# Altium integrated library Diode - Rectifier.IntLib: 777 symbols (part 11 of 12)
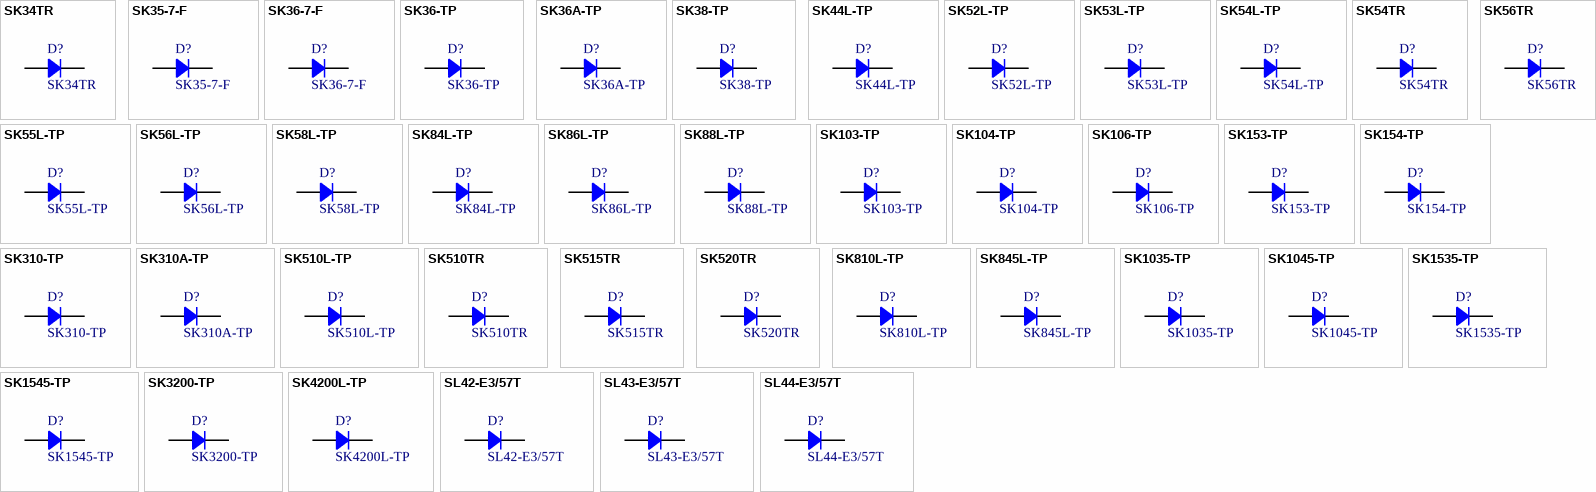
[diagram p29: symbols SK34TR to SL44-E3/57T]

## SK54L-TP
designator D?
DIODE SCHOTTKY 40V 5A DO214AB; Manufacturer: Micro Commercial Co; Current Reverse Leakage @ Vr: 1mA @ 40V; Voltage Forward (Vf): 550mV @ 5A; Part Number: SK54L-TP; PartId: 27827; Supplier 1: Digi-Key; Supplier Part Number 1: SK54L-TPMSCT-ND; ComponentLink1Description: Datasheet; ComponentLink1URL: http://www.mccsemi.com/up_pdf/SK52L-SK510L(DO-214AB).PDF; ComponentLink2Description: Digi-Key Listing; ComponentLink2URL: https://www.digikey.com/product-detail/en/micro-commercial-co/SK54L-TP/SK54L-TPMSCT-ND/4071513; Junction Operating Temperature: -55C ~ 150C; Price: 0.49; Type: Schottky; Device Package: DO-214AB, SMC; Voltage DC Reverse (Vr): 40V; Current Rectified: 5A
footprint ST DO214AB SMC
pins: 1, 2

## SK54TR
designator D?
DIODE SCHOTTKY 40V SMC; Manufacturer: SMC Diode Solutions; Current Reverse Leakage @ Vr: 1mA @ 40V; Voltage Forward (Vf): 650mV @ 5A; Part Number: SK54TR; PartId: 27812; Supplier 1: Digi-Key; Supplier Part Number 1: 1655-1605-1-ND; ComponentLink1Description: Datasheet; ComponentLink1URL: http://www.smc-diodes.com/propdf/SK54%20N0939%20REV.-.pdf; ComponentLink2Description: Digi-Key Listing; ComponentLink2URL: https://www.digikey.com/product-detail/en/smc-diode-solutions/SK54TR/1655-1605-1-ND/6023050; Junction Operating Temperature: -55C ~ 150C; Price: 0.4; Type: Schottky; Device Package: DO-214AB, SMC; Voltage DC Reverse (Vr): 40V
footprint ST DO214AB SMC
pins: 1, 2

## SK55L-TP
designator D?
DIODE SCHOTTKY 50V 5A DO214AB; Manufacturer: Micro Commercial Co; Current Reverse Leakage @ Vr: 1mA @ 50V; Voltage Forward (Vf): 750mV @ 5A; Part Number: SK55L-TP; PartId: 27826; Supplier 1: Digi-Key; Supplier Part Number 1: SK55L-TPMSCT-ND; ComponentLink1Description: Datasheet; ComponentLink1URL: http://www.mccsemi.com/up_pdf/SK52L-SK510L(DO-214AB).PDF; ComponentLink2Description: Digi-Key Listing; ComponentLink2URL: https://www.digikey.com/product-detail/en/micro-commercial-co/SK55L-TP/SK55L-TPMSCT-ND/4071514; Junction Operating Temperature: -55C ~ 150C; Price: 0.49; Type: Schottky; Device Package: DO-214AB, SMC; Voltage DC Reverse (Vr): 50V; Current Rectified: 5A
footprint ST DO214AB SMC
pins: 1, 2

## SK56L-TP
designator D?
DIODE SCHOTTKY 60V 5A DO214AB; Manufacturer: Micro Commercial Co; Current Reverse Leakage @ Vr: 1mA @ 60V; Voltage Forward (Vf): 750mV @ 5A; Part Number: SK56L-TP; PartId: 27727; Supplier 1: Digi-Key; Supplier Part Number 1: SK56L-TPMSCT-ND; ComponentLink1Description: Datasheet; ComponentLink1URL: http://www.mccsemi.com/up_pdf/SK52L-SK510L(DO-214AB).PDF; ComponentLink2Description: Digi-Key Listing; ComponentLink2URL: https://www.digikey.com/product-detail/en/micro-commercial-co/SK56L-TP/SK56L-TPMSCT-ND/4071515; Junction Operating Temperature: -55C ~ 150C; Price: 0.49; Type: Schottky; Device Package: DO-214AB, SMC; Voltage DC Reverse (Vr): 60V; Current Rectified: 5A
footprint ST DO214AB SMC
pins: 1, 2

## SK56TR
designator D?
DIODE SCHOTTKY 60V SMB; Manufacturer: SMC Diode Solutions; Current Reverse Leakage @ Vr: 1mA @ 60V; Voltage Forward (Vf): 700mV @ 5A; Part Number: SK56TR; PartId: 27810; Supplier 1: Digi-Key; Supplier Part Number 1: 1655-1607-1-ND; ComponentLink1Description: Datasheet; ComponentLink1URL: http://www.smc-diodes.com/propdf/SK56%20N0940%20REV.-.pdf; ComponentLink2Description: Digi-Key Listing; ComponentLink2URL: https://www.digikey.com/product-detail/en/smc-diode-solutions/SK56TR/1655-1607-1-ND/6023052; Junction Operating Temperature: -55C ~ 150C; Price: 0.4; Type: Schottky; Device Package: DO-214AB, SMC; Voltage DC Reverse (Vr): 60V
footprint ST DO214AB SMC
pins: 1, 2

## SK58L-TP
designator D?
DIODE SCHOTTKY 80V 5A DO214AB; Manufacturer: Micro Commercial Co; Current Reverse Leakage @ Vr: 1mA @ 80V; Voltage Forward (Vf): 850mV @ 5A; Part Number: SK58L-TP; PartId: 27900; Supplier 1: Digi-Key; Supplier Part Number 1: SK58L-TPMSCT-ND; ComponentLink1Description: Datasheet; ComponentLink1URL: http://www.mccsemi.com/up_pdf/SK52L-SK510L(DO-214AB).PDF; ComponentLink2Description: Digi-Key Listing; ComponentLink2URL: https://www.digikey.com/product-detail/en/micro-commercial-co/SK58L-TP/SK58L-TPMSCT-ND/4966298; Junction Operating Temperature: -55C ~ 150C; Price: 0.49; Type: Schottky; Device Package: DO-214AB, SMC; Voltage DC Reverse (Vr): 80V; Current Rectified: 5A
footprint ST DO214AB SMC
pins: 1, 2

## SK84L-TP
designator D?
DIODE SCHOTTKY 40V 8A DO214AB; Manufacturer: Micro Commercial Co; Current Reverse Leakage @ Vr: 1mA @ 40V; Voltage Forward (Vf): 650mV @ 8A; Part Number: SK84L-TP; PartId: 27752; Supplier 1: Digi-Key; Supplier Part Number 1: SK84L-TPMSCT-ND; ComponentLink1Description: Datasheet; ComponentLink1URL: http://www.mccsemi.com/up_pdf/SK82L-SK810L(SMC).PDF; ComponentLink2Description: Digi-Key Listing; ComponentLink2URL: https://www.digikey.com/product-detail/en/micro-commercial-co/SK84L-TP/SK84L-TPMSCT-ND/3191624; Junction Operating Temperature: -55C ~ 150C; Price: 0.74; Type: Schottky; Device Package: DO-214AB, SMC; Voltage DC Reverse (Vr): 40V; Current Rectified: 8A
footprint ST DO214AB SMC
pins: 1, 2

## SK86L-TP
designator D?
DIODE SCHOTTKY 60V 8A DO214AB; Manufacturer: Micro Commercial Co; Current Reverse Leakage @ Vr: 1mA @ 60V; Voltage Forward (Vf): 650mV @ 8A; Part Number: SK86L-TP; PartId: 27701; Supplier 1: Digi-Key; Supplier Part Number 1: SK86L-TPMSCT-ND; ComponentLink1Description: Datasheet; ComponentLink1URL: http://www.mccsemi.com/up_pdf/SK82L-SK810L(SMC).PDF; ComponentLink2Description: Digi-Key Listing; ComponentLink2URL: https://www.digikey.com/product-detail/en/micro-commercial-co/SK86L-TP/SK86L-TPMSCT-ND/4966300; Junction Operating Temperature: -55C ~ 150C; Price: 0.74; Type: Schottky; Device Package: DO-214AB, SMC; Voltage DC Reverse (Vr): 60V; Current Rectified: 8A
footprint ST DO214AB SMC
pins: 1, 2

## SK88L-TP
designator D?
DIODE SCHOTTKY 80V 8A DO214AB; Manufacturer: Micro Commercial Co; Current Reverse Leakage @ Vr: 1mA @ 80V; Voltage Forward (Vf): 800mV @ 8A; Part Number: SK88L-TP; PartId: 27906; Supplier 1: Digi-Key; Supplier Part Number 1: SK88L-TPMSCT-ND; ComponentLink1Description: Datasheet; ComponentLink1URL: http://www.mccsemi.com/up_pdf/SK82L-SK810L(SMC).PDF; ComponentLink2Description: Digi-Key Listing; ComponentLink2URL: https://www.digikey.com/product-detail/en/micro-commercial-co/SK88L-TP/SK88L-TPMSCT-ND/4966301; Junction Operating Temperature: -55C ~ 150C; Price: 0.74; Type: Schottky; Device Package: DO-214AB, SMC; Voltage DC Reverse (Vr): 80V; Current Rectified: 8A
footprint ST DO214AB SMC
pins: 1, 2

## SK103-TP
designator D?
DIODE SCHOTTKY 30V 10A DO214AB; Manufacturer: Micro Commercial Co; Current Reverse Leakage @ Vr: 1mA @ 30V; Voltage Forward (Vf): 650mV @ 10A; Part Number: SK103-TP; PartId: 27757; Supplier 1: Digi-Key; Supplier Part Number 1: SK103-TPCT-ND; ComponentLink1Description: Datasheet; ComponentLink1URL: http://www.mccsemi.com/up_pdf/SK102-SK1010(HSMC).PDF; ComponentLink2Description: Digi-Key Listing; ComponentLink2URL: https://www.digikey.com/product-detail/en/micro-commercial-co/SK103-TP/SK103-TPCT-ND/1306211; Junction Operating Temperature: -55C ~ 125C; Price: 0.9; Type: Schottky; Device Package: DO-214AB, SMC; Voltage DC Reverse (Vr): 30V; Current Rectified: 10A
footprint ST DO214AB SMC
pins: 1, 2

## SK104-TP
designator D?
DIODE SCHOTTKY 40V 10A DO214AB; Manufacturer: Micro Commercial Co; Current Reverse Leakage @ Vr: 1mA @ 40V; Voltage Forward (Vf): 650mV @ 10A; Part Number: SK104-TP; PartId: 27706; Supplier 1: Digi-Key; Supplier Part Number 1: SK104-TPCT-ND; ComponentLink1Description: Datasheet; ComponentLink1URL: http://www.mccsemi.com/up_pdf/SK102-SK1010(HSMC).PDF; ComponentLink2Description: Digi-Key Listing; ComponentLink2URL: https://www.digikey.com/product-detail/en/micro-commercial-co/SK104-TP/SK104-TPCT-ND/1306212; Junction Operating Temperature: -55C ~ 125C; Price: 0.9; Type: Schottky; Device Package: DO-214AB, SMC; Voltage DC Reverse (Vr): 40V; Current Rectified: 10A
footprint ST DO214AB SMC
pins: 1, 2

## SK106-TP
designator D?
DIODE SCHOTTKY 60V 10A DO214AB; Manufacturer: Micro Commercial Co; Type: Surface Mount; Current Reverse Leakage @ Vr: 1mA @ 60V; Voltage Forward (Vf): 850mV @ 10A; Part Number: SK106-TP; PartId: 7135; Supplier 1: Digi-Key; Supplier Part Number 1: SK106-TPTR-ND; ComponentLink1Description: Datasheet; ComponentLink1URL: http://www.mccsemi.com/up_pdf/SK102-SK1010(HSMC).PDF; ComponentLink2Description: Digi-Key Listing; ComponentLink2URL: http://www.digikey.ca/product-detail/en/SK106-TP/SK106-TPTR-ND/1306162; Junction Operating Temperature: -55C ~ 125C; Price: 0.5378; Device Package: DO-214AB, SMC; Reverse Recovery Time (trr): -; Voltage DC Reverse (Vr): 60V; Current Rectified: 10A
footprint DO214AB SMC
pins: 1, 2

## SK153-TP
designator D?
DIODE SCHOTTKY 30V 15A DO214AB; Manufacturer: Micro Commercial Co; Type: Surface Mount; Current Reverse Leakage @ Vr: 1mA @ 30V; Voltage Forward (Vf): 550mV @ 15A; Part Number: SK153-TP; PartId: 7133; Supplier 1: Digi-Key; Supplier Part Number 1: SK153-TPTR-ND; ComponentLink1Description: Datasheet; ComponentLink1URL: http://www.mccsemi.com/up_pdf/SK152-SK1510(HSMC).PDF; ComponentLink2Description: Digi-Key Listing; ComponentLink2URL: http://www.digikey.ca/product-detail/en/SK153-TP/SK153-TPTR-ND/1306165; Junction Operating Temperature: -55C ~ 125C; Price: 0.753; Device Package: DO-214AB, SMC; Reverse Recovery Time (trr): -; Voltage DC Reverse (Vr): 30V; Current Rectified: 15A
footprint DO214AB SMC
pins: 1, 2

## SK154-TP
designator D?
DIODE SCHOTTKY 40V 15A DO214AB; Manufacturer: Micro Commercial Co; Type: Surface Mount; Current Reverse Leakage @ Vr: 1mA @ 40V; Voltage Forward (Vf): 550mV @ 15A; Part Number: SK154-TP; PartId: 7134; Supplier 1: Digi-Key; Supplier Part Number 1: SK154-TPTR-ND; ComponentLink1Description: Datasheet; ComponentLink1URL: http://www.mccsemi.com/up_pdf/SK152-SK1510(HSMC).PDF; ComponentLink2Description: Digi-Key Listing; ComponentLink2URL: http://www.digikey.ca/product-detail/en/SK154-TP/SK154-TPTR-ND/1306166; Junction Operating Temperature: -55C ~ 125C; Price: 0.753; Device Package: DO-214AB, SMC; Reverse Recovery Time (trr): -; Voltage DC Reverse (Vr): 40V; Current Rectified: 15A
footprint DO214AB SMC
pins: 1, 2

## SK310-TP
designator D?
DIODE SCHOTTKY 3A 100V SMC; Manufacturer: Micro Commercial Co; Current Reverse Leakage @ Vr: 500uA @ 100V; Voltage Forward (Vf): 850mV @ 3A; Part Number: SK310-TP; PartId: 27819; Supplier 1: Digi-Key; Supplier Part Number 1: SK310-TPMSCT-ND; ComponentLink1Description: Datasheet; ComponentLink1URL: http://www.mccsemi.com/up_pdf/SK32-SK310(DO-214AB).PDF; ComponentLink2Description: Digi-Key Listing; ComponentLink2URL: https://www.digikey.com/product-detail/en/micro-commercial-co/SK310-TP/SK310-TPMSCT-ND/5418802; Junction Operating Temperature: -55C ~ 150C; Price: 0.48; Type: Schottky; Device Package: DO-214AB, SMC; Voltage DC Reverse (Vr): 100V; Current Rectified: 3A
footprint ST DO214AB SMC
pins: 1, 2

## SK310A-TP
designator D?
DIODE SCHOTTKY 100V 3A DO214AC; Manufacturer: Micro Commercial Co; Current Reverse Leakage @ Vr: 500uA @ 100V; Voltage Forward (Vf): 850mV @ 3A; Part Number: SK310A-TP; PartId: 18051; Supplier 1: Digi-Key; Supplier Part Number 1: SK310A-TPTR-ND; ComponentLink1Description: Datasheet; ComponentLink1URL: http://www.mccsemi.com/up_pdf/SK32A-SK310A(HSMA).PDF; ComponentLink2Description: Digi-Key Listing; ComponentLink2URL: https://www.digikey.com/product-detail/en/micro-commercial-co/SK310A-TP/SK310A-TPTR-ND/950448; Junction Operating Temperature: -50C ~ 125C; Price: 0.157; Type: Schottky; Device Package: DO-214AC, SMA; Voltage DC Reverse (Vr): 100V; Current Rectified: 3A
footprint ST DO214AC SMA
pins: 1, 2

## SK510L-TP
designator D?
DIODE SCHOTTKY 100V 5A DO214AB; Manufacturer: Micro Commercial Co; Current Reverse Leakage @ Vr: 1mA @ 100V; Voltage Forward (Vf): 850mV @ 5A; Part Number: SK510L-TP; PartId: 27822; Supplier 1: Digi-Key; Supplier Part Number 1: SK510L-TPMSCT-ND; ComponentLink1Description: Datasheet; ComponentLink1URL: http://www.mccsemi.com/up_pdf/SK52L-SK510L(DO-214AB).PDF; ComponentLink2Description: Digi-Key Listing; ComponentLink2URL: https://www.digikey.com/product-detail/en/micro-commercial-co/SK510L-TP/SK510L-TPMSCT-ND/4071512; Junction Operating Temperature: -55C ~ 150C; Price: 0.49; Type: Schottky; Device Package: DO-214AB, SMC; Voltage DC Reverse (Vr): 100V; Current Rectified: 5A
footprint ST DO214AB SMC
pins: 1, 2

## SK510TR
designator D?
DIODE SCHOTTKY 100V SMB; Manufacturer: SMC Diode Solutions; Current Reverse Leakage @ Vr: 100uA @ 100V; Voltage Forward (Vf): 850mV @ 5A; Part Number: SK510TR; PartId: 27808; Supplier 1: Digi-Key; Supplier Part Number 1: 1655-1599-1-ND; ComponentLink1Description: Datasheet; ComponentLink1URL: http://www.smc-diodes.com/propdf/SK510%20N1113%20REV.-.pdf; ComponentLink2Description: Digi-Key Listing; ComponentLink2URL: https://www.digikey.com/product-detail/en/smc-diode-solutions/SK510TR/1655-1599-1-ND/6023044; Junction Operating Temperature: -55C ~ 150C; Price: 0.4; Type: Schottky; Device Package: DO-214AB, SMC; Voltage DC Reverse (Vr): 100V
footprint ST DO214AB SMC
pins: 1, 2

## SK515TR
designator D?
DIODE SCHOTTKY 150V SMB; Manufacturer: SMC Diode Solutions; Current Reverse Leakage @ Vr: 1mA @ 150V; Voltage Forward (Vf): 930mV @ 5A; Part Number: SK515TR; PartId: 27811; Supplier 1: Digi-Key; Supplier Part Number 1: 1655-1601-1-ND; ComponentLink1Description: Datasheet; ComponentLink1URL: http://www.smc-diodes.com/propdf/SK515%20N0636%20REV.-.pdf; ComponentLink2Description: Digi-Key Listing; ComponentLink2URL: https://www.digikey.com/product-detail/en/smc-diode-solutions/SK515TR/1655-1601-1-ND/6023046; Junction Operating Temperature: -55C ~ 150C; Price: 0.4; Type: Schottky; Device Package: DO-214AB, SMC; Voltage DC Reverse (Vr): 150V
footprint ST DO214AB SMC
pins: 1, 2

## SK520TR
designator D?
DIODE SCHOTTKY 200V 5A SMC; Manufacturer: SMC Diode Solutions; Current Reverse Leakage @ Vr: 1mA @ 200V; Voltage Forward (Vf): 1.1V @ 5A; Part Number: SK520TR; PartId: 27796; Supplier 1: Digi-Key; Supplier Part Number 1: 1655-1603-1-ND; ComponentLink1Description: Datasheet; ComponentLink1URL: http://www.smc-diodes.com/propdf/SK520%20N0107%20REV.-.pdf; ComponentLink2Description: Digi-Key Listing; ComponentLink2URL: https://www.digikey.com/product-detail/en/smc-diode-solutions/SK520TR/1655-1603-1-ND/6023048; Junction Operating Temperature: -55C ~ 150C; Price: 0.4; Type: Schottky; Device Package: DO-214AB, SMC; Voltage DC Reverse (Vr): 200V; Current Rectified: 5A
footprint ST DO214AB SMC
pins: 1, 2

## SK810L-TP
designator D?
DIODE SCHOTTKY 100V 8A DO214AB; Manufacturer: Micro Commercial Co; Current Reverse Leakage @ Vr: 1mA @ 100V; Voltage Forward (Vf): 800mV @ 8A; Part Number: SK810L-TP; PartId: 27700; Supplier 1: Digi-Key; Supplier Part Number 1: SK810L-TPMSCT-ND; ComponentLink1Description: Datasheet; ComponentLink1URL: http://www.mccsemi.com/up_pdf/SK82L-SK810L(SMC).PDF; ComponentLink2Description: Digi-Key Listing; ComponentLink2URL: https://www.digikey.com/product-detail/en/micro-commercial-co/SK810L-TP/SK810L-TPMSCT-ND/2650908; Junction Operating Temperature: -55C ~ 150C; Price: 0.74; Type: Schottky; Device Package: DO-214AB, SMC; Voltage DC Reverse (Vr): 100V; Current Rectified: 8A
footprint ST DO214AB SMC
pins: 1, 2

## SK845L-TP
designator D?
DIODE SCHOTTKY 45V 8A DO214AB; Manufacturer: Micro Commercial Co; Current Reverse Leakage @ Vr: 1mA @ 45V; Voltage Forward (Vf): 650mV @ 8A; Part Number: SK845L-TP; PartId: 27905; Supplier 1: Digi-Key; Supplier Part Number 1: SK845L-TPMSCT-ND; ComponentLink1Description: Datasheet; ComponentLink1URL: http://www.mccsemi.com/up_pdf/SK82L-SK810L(SMC).PDF; ComponentLink2Description: Digi-Key Listing; ComponentLink2URL: https://www.digikey.com/product-detail/en/micro-commercial-co/SK845L-TP/SK845L-TPMSCT-ND/4966299; Junction Operating Temperature: -55C ~ 150C; Price: 0.74; Type: Schottky; Device Package: DO-214AB, SMC; Voltage DC Reverse (Vr): 45V; Current Rectified: 8A
footprint ST DO214AB SMC
pins: 1, 2

## SK1035-TP
designator D?
DIODE SCHOTTKY 35V 10A DO214AB; Manufacturer: Micro Commercial Co; Current Reverse Leakage @ Vr: 1mA @ 35V; Voltage Forward (Vf): 650mV @ 10A; Part Number: SK1035-TP; PartId: 27788; Supplier 1: Digi-Key; Supplier Part Number 1: SK1035-TPCT-ND; ComponentLink1Description: Datasheet; ComponentLink1URL: http://www.mccsemi.com/up_pdf/SK102-SK1010(HSMC).PDF; ComponentLink2Description: Digi-Key Listing; ComponentLink2URL: https://www.digikey.com/product-detail/en/micro-commercial-co/SK1035-TP/SK1035-TPCT-ND/1306215; Junction Operating Temperature: -55C ~ 125C; Price: 0.9; Type: Schottky; Device Package: DO-214AB, SMC; Voltage DC Reverse (Vr): 35V; Current Rectified: 10A
footprint ST DO214AB SMC
pins: 1, 2

## SK1045-TP
designator D?
DIODE SCHOTTKY 45V 10A DO214AB; Manufacturer: Micro Commercial Co; Type: Surface Mount; Current Reverse Leakage @ Vr: 1mA @ 45V; Voltage Forward (Vf): 650mV @ 10A; Part Number: SK1045-TP; PartId: 7136; Supplier 1: Digi-Key; Supplier Part Number 1: SK1045-TPTR-ND; ComponentLink1Description: Datasheet; ComponentLink1URL: http://www.mccsemi.com/up_pdf/SK102-SK1010(HSMC).PDF; ComponentLink2Description: Digi-Key Listing; ComponentLink2URL: http://www.digikey.ca/product-detail/en/SK1045-TP/SK1045-TPTR-ND/1306163; Junction Operating Temperature: -55C ~ 125C; Price: 0.5378; Device Package: DO-214AB, SMC; Reverse Recovery Time (trr): -; Voltage DC Reverse (Vr): 45V; Current Rectified: 10A
footprint DO214AB SMC
pins: 1, 2

## SK1535-TP
designator D?
DIODE SCHOTTKY 35V 15A DO214AB; Manufacturer: Micro Commercial Co; Type: Surface Mount; Current Reverse Leakage @ Vr: 1mA @ 35V; Voltage Forward (Vf): 550mV @ 15A; Part Number: SK1535-TP; PartId: 7132; Supplier 1: Digi-Key; Supplier Part Number 1: SK1535-TPTR-ND; ComponentLink1Description: Datasheet; ComponentLink1URL: http://www.mccsemi.com/up_pdf/SK152-SK1510(HSMC).PDF; ComponentLink2Description: Digi-Key Listing; ComponentLink2URL: http://www.digikey.ca/product-detail/en/SK1535-TP/SK1535-TPTR-ND/1306167; Junction Operating Temperature: -55C ~ 125C; Price: 0.753; Device Package: DO-214AB, SMC; Reverse Recovery Time (trr): -; Voltage DC Reverse (Vr): 35V; Current Rectified: 15A
footprint DO214AB SMC
pins: 1, 2

## SK1545-TP
designator D?
DIODE SCHOTTKY 45V 15A DO214AB; Manufacturer: Micro Commercial Co; Current Reverse Leakage @ Vr: 1mA @ 45V; Voltage Forward (Vf): 550mV @ 15A; Part Number: SK1545-TP; PartId: 27711; Supplier 1: Digi-Key; Supplier Part Number 1: SK1545-TPCT-ND; ComponentLink1Description: Datasheet; ComponentLink1URL: http://www.mccsemi.com/up_pdf/SK152-SK1510(HSMC).PDF; ComponentLink2Description: Digi-Key Listing; ComponentLink2URL: https://www.digikey.com/product-detail/en/micro-commercial-co/SK1545-TP/SK1545-TPCT-ND/1306219; Junction Operating Temperature: -55C ~ 125C; Price: 1.26; Type: Schottky; Device Package: DO-214AB, SMC; Voltage DC Reverse (Vr): 45V; Current Rectified: 15A
footprint ST DO214AB SMC
pins: 1, 2

## SK3200-TP
designator D?
DIODE SCHOTTKY 200V 3A DO214AB; Manufacturer: Micro Commercial Co; Current Reverse Leakage @ Vr: 500uA @ 200V; Voltage Forward (Vf): 860mV @ 3A; Part Number: SK3200-TP; PartId: 27862; Supplier 1: Digi-Key; Supplier Part Number 1: SK3200-TPMSCT-ND; ComponentLink1Description: Datasheet; ComponentLink1URL: http://www.mccsemi.com/up_pdf/SK3200(SMC).pdf; ComponentLink2Description: Digi-Key Listing; ComponentLink2URL: https://www.digikey.com/product-detail/en/micro-commercial-co/SK3200-TP/SK3200-TPMSCT-ND/2233947; Junction Operating Temperature: -55C ~ 150C; Price: 0.74; Type: Schottky; Device Package: DO-214AB, SMC; Voltage DC Reverse (Vr): 200V; Current Rectified: 3A
footprint ST DO214AB SMC
pins: 1, 2

## SK4200L-TP
designator D?
DIODE SCHOTTKY 200V 4A DO214AB; Manufacturer: Micro Commercial Co; Current Reverse Leakage @ Vr: 500uA @ 200V; Reverse Recovery Time (trr): 35ns; Voltage Forward (Vf): 860mV @ 4A; Part Number: SK4200L-TP; PartId: 27684; Supplier 1: Digi-Key; Supplier Part Number 1: SK4200L-TPMSCT-ND; ComponentLink1Description: Datasheet; ComponentLink1URL: http://www.mccsemi.com/up_pdf/SK4200L(SMC).pdf; ComponentLink2Description: Digi-Key Listing; ComponentLink2URL: https://www.digikey.com/product-detail/en/micro-commercial-co/SK4200L-TP/SK4200L-TPMSCT-ND/2233948; Junction Operating Temperature: -55C ~ 150C; Price: 0.49; Type: Schottky; Device Package: DO-214AB, SMC; Voltage DC Reverse (Vr): 200V; Current Rectified: 4A
footprint ST DO214AB SMC
pins: 1, 2

## SL42-E3/57T
designator D?
DIODE SCHOTTKY 20V 4A DO214AB; Manufacturer: Vishay Semiconductor Diodes Division; Type: Surface Mount; Current Reverse Leakage @ Vr: 500uA @ 20V; Voltage Forward (Vf): 420mV @ 4A; Part Number: SL42-E3/57T; PartId: 7157; Supplier 1: Digi-Key; Supplier Part Number 1: SL42-E3/57TGITR-ND; ComponentLink1Description: Datasheet; ComponentLink1URL: http://www.vishay.com/docs/88742/sl42.pdf; ComponentLink2Description: Digi-Key Listing; ComponentLink2URL: http://www.digikey.ca/product-detail/en/SL42-E3%2F57T/SL42-E3%2F57TGITR-ND/1091491; Junction Operating Temperature: -55C ~ 125C; Price: 0.6052; Device Package: DO-214AB, SMC; Reverse Recovery Time (trr): -; Voltage DC Reverse (Vr): 20V; Current Rectified: 4A
footprint DO214AB SMC
pins: 1, 2

## SL43-E3/57T
designator D?
DIODE SCHOTTKY 30V 4A DO214AB; Manufacturer: Vishay Semiconductor Diodes Division; Type: Surface Mount; Current Reverse Leakage @ Vr: 500uA @ 30V; Voltage Forward (Vf): 420mV @ 4A; Part Number: SL43-E3/57T; PartId: 7158; Supplier 1: Digi-Key; Supplier Part Number 1: SL43-E3/57TGITR-ND; ComponentLink1Description: Datasheet; ComponentLink1URL: http://www.vishay.com/docs/88742/sl42.pdf; ComponentLink2Description: Digi-Key Listing; ComponentLink2URL: http://www.digikey.ca/product-detail/en/SL43-E3%2F57T/SL43-E3%2F57TGITR-ND/1091492; Junction Operating Temperature: -55C ~ 125C; Price: 0.7641; Device Package: DO-214AB, SMC; Reverse Recovery Time (trr): -; Voltage DC Reverse (Vr): 30V; Current Rectified: 4A
footprint DO214AB SMC
pins: 1, 2

## SL44-E3/57T
designator D?
DIODE SCHOTTKY 40V 4A DO214AB; Manufacturer: Vishay Semiconductor Diodes Division; Current Reverse Leakage @ Vr: 500uA @ 40V; Voltage Forward (Vf): 440mV @ 4A; Part Number: SL44-E3/57T; PartId: 27709; Supplier 1: Digi-Key; Supplier Part Number 1: SL44-E3/57TGICT-ND; ComponentLink1Description: Datasheet; ComponentLink1URL: http://www.vishay.com/docs/88742/sl42.pdf; ComponentLink2Description: Digi-Key Listing; ComponentLink2URL: https://www.digikey.com/product-detail/en/vishay-semiconductor-diodes-division/SL44-E3-57T/SL44-E3-57TGICT-ND/1091623; Junction Operating Temperature: -55C ~ 125C; Price: 0.78; Type: Schottky; Device Package: DO-214AB, SMC; Voltage DC Reverse (Vr): 40V; Current Rectified: 4A
footprint ST DO214AB SMC
pins: 1, 2

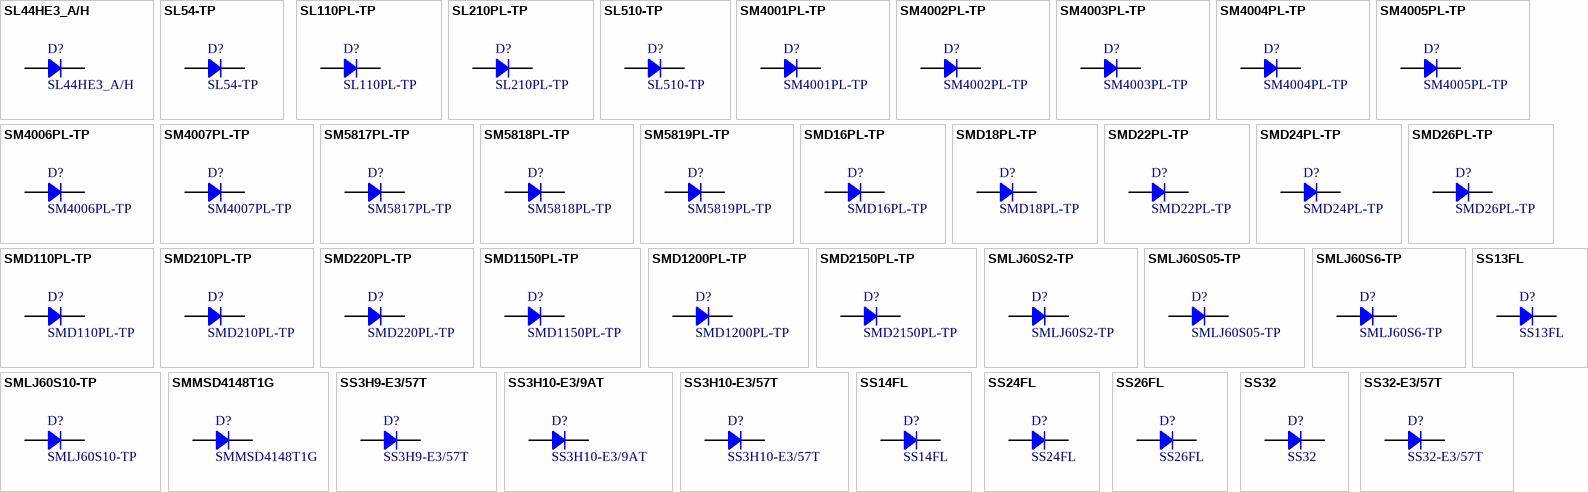
[diagram p17: symbols SL44HE3_A/H to SS32-E3/57T]

## SL44HE3_A/H
designator D?
DIODE SCHOTTKY 40V 8A DO214AB; Manufacturer: Vishay Semiconductor Diodes Division; Current Reverse Leakage @ Vr: 500uA @ 40V; Voltage Forward (Vf): 500mV @ 8A; Part Number: SL44HE3_A/H; PartId: 27874; Supplier 1: Digi-Key; Supplier Part Number 1: SL44HE3_A/HGICT-ND; ComponentLink1Description: Datasheet; ComponentLink1URL: http://www.vishay.com/docs/88742/sl42.pdf; ComponentLink2Description: Digi-Key Listing; ComponentLink2URL: https://www.digikey.com/product-detail/en/vishay-semiconductor-diodes-division/SL44HE3_A-H/SL44HE3_A-HGICT-ND/4743575; Junction Operating Temperature: -55C ~ 125C; Price: 0.95; Type: Schottky; Device Package: DO-214AB, SMC; Voltage DC Reverse (Vr): 40V; Current Rectified: 8A
footprint ST DO214AB SMC
pins: 1, 2

## SL54-TP
designator D?
DIODE SCHOTTKY 40V 5A DO214AB; Manufacturer: Micro Commercial Co; Current Reverse Leakage @ Vr: 500uA @ 40V; Voltage Forward (Vf): 450mV @ 5A; Part Number: SL54-TP; PartId: 27859; Supplier 1: Digi-Key; Supplier Part Number 1: SL54-TPMSCT-ND; ComponentLink1Description: Datasheet; ComponentLink1URL: http://www.mccsemi.com/up_pdf/SL54~SL510(DO-214AB)-A.pdf; ComponentLink2Description: Digi-Key Listing; ComponentLink2URL: https://www.digikey.com/product-detail/en/micro-commercial-co/SL54-TP/SL54-TPMSCT-ND/6004850; Junction Operating Temperature: -55C ~ 150C; Price: 0.74; Type: Schottky; Device Package: DO-214AB, SMC; Voltage DC Reverse (Vr): 40V; Current Rectified: 5A
footprint ST DO214AB SMC
pins: 1, 2

## SL110PL-TP
designator D?
DIODE SCHOTTKY 100V 1A SOD123FL; Manufacturer: Micro Commercial Co; Current Reverse Leakage @ Vr: 500uA @ 100V; Voltage Forward (Vf): 600mV @ 1A; Part Number: SL110PL-TP; PartId: 29330; Supplier 1: Digi-Key; Supplier Part Number 1: SL110PL-TPMSCT-ND; ComponentLink1Description: Datasheet; ComponentLink1URL: http://www.mccsemi.com/up_pdf/SL14PL-SL110PL(SOD-123FL)-A.pdf; ComponentLink2Description: Digi-Key Listing; ComponentLink2URL: https://www.digikey.com/product-detail/en/micro-commercial-co/SL110PL-TP/SL110PL-TPMSCT-ND/6004845; Junction Operating Temperature: -55C ~ 150C; Price: 0.49; Type: Schottky; Device Package: SOD-123F; Voltage DC Reverse (Vr): 100V; Current Rectified: 1A
footprint SOD123F
pins: 1, 2

## SL210PL-TP
designator D?
DIODE SCHOTTKY 100V 2A SOD123FL; Manufacturer: Micro Commercial Co; Current Reverse Leakage @ Vr: 500uA @ 100V; Voltage Forward (Vf): 720mV @ 2A; Part Number: SL210PL-TP; PartId: 29291; Supplier 1: Digi-Key; Supplier Part Number 1: SL210PL-TPMSCT-ND; ComponentLink1Description: Datasheet; ComponentLink1URL: http://www.mccsemi.com/up_pdf/SL24PL-SL210PL(SOD-123FL)-A.pdf; ComponentLink2Description: Digi-Key Listing; ComponentLink2URL: https://www.digikey.com/product-detail/en/micro-commercial-co/SL210PL-TP/SL210PL-TPMSCT-ND/6004846; Junction Operating Temperature: -55C ~ 150C; Price: 0.47; Type: Schottky; Device Package: SOD-123F; Voltage DC Reverse (Vr): 100V; Current Rectified: 2A
footprint SOD123F
pins: 1, 2

## SL510-TP
designator D?
DIODE SCHOTTKY 100V 5A DO214AB; Manufacturer: Micro Commercial Co; Current Reverse Leakage @ Vr: 500uA @ 100V; Voltage Forward (Vf): 700mV @ 5A; Part Number: SL510-TP; PartId: 27860; Supplier 1: Digi-Key; Supplier Part Number 1: SL510-TPMSCT-ND; ComponentLink1Description: Datasheet; ComponentLink1URL: http://www.mccsemi.com/up_pdf/SL54~SL510(DO-214AB)-A.pdf; ComponentLink2Description: Digi-Key Listing; ComponentLink2URL: https://www.digikey.com/product-detail/en/micro-commercial-co/SL510-TP/SL510-TPMSCT-ND/6004849; Junction Operating Temperature: -55C ~ 150C; Price: 0.74; Type: Schottky; Device Package: DO-214AB, SMC; Voltage DC Reverse (Vr): 100V; Current Rectified: 5A
footprint ST DO214AB SMC
pins: 1, 2

## SM4001PL-TP
designator D?
DIODE GEN PURP 50V 1A SOD123FL; Manufacturer: Micro Commercial Co; Type: Standard; Current Reverse Leakage @ Vr: 5uA @ 50V; Voltage Forward (Vf): 1.1V @ 1A; Part Number: SM4001PL-TP; PartId: 29331; Supplier 1: Digi-Key; Supplier Part Number 1: SM4001PL-TPMSCT-ND; ComponentLink1Description: Datasheet; ComponentLink1URL: http://www.mccsemi.com/up_pdf/SM4001PL-SM4007PL(SOD-123FL).PDF; ComponentLink2Description: Digi-Key Listing; ComponentLink2URL: https://www.digikey.com/product-detail/en/micro-commercial-co/SM4001PL-TP/SM4001PL-TPMSCT-ND/1793403; Junction Operating Temperature: -65C ~ 175C; Price: 0.52; Device Package: SOD-123F; Voltage DC Reverse (Vr): 50V; Current Rectified: 1A
footprint SOD123F
pins: 1, 2

## SM4002PL-TP
designator D?
DIODE GEN PURP 100V 1A SOD123FL; Manufacturer: Micro Commercial Co; Type: Standard; Current Reverse Leakage @ Vr: 5uA @ 100V; Voltage Forward (Vf): 1.1V @ 1A; Part Number: SM4002PL-TP; PartId: 29194; Supplier 1: Digi-Key; Supplier Part Number 1: SM4002PL-TPMSCT-ND; ComponentLink1Description: Datasheet; ComponentLink1URL: http://www.mccsemi.com/up_pdf/SM4001PL-SM4007PL(SOD-123FL).PDF; ComponentLink2Description: Digi-Key Listing; ComponentLink2URL: https://www.digikey.com/product-detail/en/micro-commercial-co/SM4002PL-TP/SM4002PL-TPMSCT-ND/1793404; Junction Operating Temperature: -65C ~ 175C; Price: 0.52; Device Package: SOD-123F; Voltage DC Reverse (Vr): 100V; Current Rectified: 1A
footprint SOD123F
pins: 1, 2

## SM4003PL-TP
designator D?
DIODE GEN PURP 200V 1A SOD123FL; Manufacturer: Micro Commercial Co; Type: Standard; Current Reverse Leakage @ Vr: 5uA @ 200V; Voltage Forward (Vf): 1.1V @ 1A; Part Number: SM4003PL-TP; PartId: 29304; Supplier 1: Digi-Key; Supplier Part Number 1: SM4003PL-TPMSCT-ND; ComponentLink1Description: Datasheet; ComponentLink1URL: http://www.mccsemi.com/up_pdf/SM4001PL-SM4007PL(SOD-123FL).PDF; ComponentLink2Description: Digi-Key Listing; ComponentLink2URL: https://www.digikey.com/product-detail/en/micro-commercial-co/SM4003PL-TP/SM4003PL-TPMSCT-ND/1793405; Junction Operating Temperature: -65C ~ 175C; Price: 0.52; Device Package: SOD-123F; Voltage DC Reverse (Vr): 200V; Current Rectified: 1A
footprint SOD123F
pins: 1, 2

## SM4004PL-TP
designator D?
DIODE GEN PURP 400V 1A SOD123FL; Manufacturer: Micro Commercial Co; Type: Standard; Current Reverse Leakage @ Vr: 5uA @ 400V; Voltage Forward (Vf): 1.1V @ 1A; Part Number: SM4004PL-TP; PartId: 29333; Supplier 1: Digi-Key; Supplier Part Number 1: SM4004PL-TPMSCT-ND; ComponentLink1Description: Datasheet; ComponentLink1URL: http://www.mccsemi.com/up_pdf/SM4001PL-SM4007PL(SOD-123FL).PDF; ComponentLink2Description: Digi-Key Listing; ComponentLink2URL: https://www.digikey.com/product-detail/en/micro-commercial-co/SM4004PL-TP/SM4004PL-TPMSCT-ND/1793406; Junction Operating Temperature: -65C ~ 175C; Price: 0.52; Device Package: SOD-123F; Voltage DC Reverse (Vr): 400V; Current Rectified: 1A
footprint SOD123F
pins: 1, 2

## SM4005PL-TP
designator D?
DIODE GEN PURP 600V 1A SOD123FL; Manufacturer: Micro Commercial Co; Type: Standard; Current Reverse Leakage @ Vr: 5uA @ 600V; Voltage Forward (Vf): 1.1V @ 1A; Part Number: SM4005PL-TP; PartId: 29337; Supplier 1: Digi-Key; Supplier Part Number 1: SM4005PL-TPMSCT-ND; ComponentLink1Description: Datasheet; ComponentLink1URL: http://www.mccsemi.com/up_pdf/SM4001PL-SM4007PL(SOD-123FL).PDF; ComponentLink2Description: Digi-Key Listing; ComponentLink2URL: https://www.digikey.com/product-detail/en/micro-commercial-co/SM4005PL-TP/SM4005PL-TPMSCT-ND/1793407; Junction Operating Temperature: -65C ~ 175C; Price: 0.52; Device Package: SOD-123F; Voltage DC Reverse (Vr): 600V; Current Rectified: 1A
footprint SOD123F
pins: 1, 2

## SM4006PL-TP
designator D?
DIODE GEN PURP 800V 1A SOD123FL; Manufacturer: Micro Commercial Co; Type: Standard; Current Reverse Leakage @ Vr: 5uA @ 800V; Voltage Forward (Vf): 1.1V @ 1A; Part Number: SM4006PL-TP; PartId: 29229; Supplier 1: Digi-Key; Supplier Part Number 1: SM4006PL-TPMSCT-ND; ComponentLink1Description: Datasheet; ComponentLink1URL: http://www.mccsemi.com/up_pdf/SM4001PL-SM4007PL(SOD-123FL).PDF; ComponentLink2Description: Digi-Key Listing; ComponentLink2URL: https://www.digikey.com/product-detail/en/micro-commercial-co/SM4006PL-TP/SM4006PL-TPMSCT-ND/1793408; Junction Operating Temperature: -65C ~ 175C; Price: 0.52; Device Package: SOD-123F; Voltage DC Reverse (Vr): 800V; Current Rectified: 1A
footprint SOD123F
pins: 1, 2

## SM4007PL-TP
designator D?
DIODE GEN PURP 1KV 1A SOD123FL; Manufacturer: Micro Commercial Co; Type: Standard; Current Reverse Leakage @ Vr: 5uA @ 1000V; Reverse Recovery Time (trr): 1us; Voltage DC Reverse (Vr): 1000V (1kV); Voltage Forward (Vf): 1.1V @ 1A; Part Number: SM4007PL-TP; PartId: 29193; Supplier 1: Digi-Key; Supplier Part Number 1: SM4007PL-TPMSCT-ND; ComponentLink1Description: Datasheet; ComponentLink1URL: http://www.mccsemi.com/up_pdf/SM4001PL-SM4007PL(SOD-123FL).PDF; ComponentLink2Description: Digi-Key Listing; ComponentLink2URL: https://www.digikey.com/product-detail/en/micro-commercial-co/SM4007PL-TP/SM4007PL-TPMSCT-ND/1793409; Junction Operating Temperature: -65C ~ 175C; Price: 0.52; Device Package: SOD-123F; Current Rectified: 1A
footprint SOD123F
pins: 1, 2

## SM5817PL-TP
designator D?
DIODE SCHOTTKY 20V 1A SOD123FL; Manufacturer: Micro Commercial Co; Current Reverse Leakage @ Vr: 100uA @ 20V; Voltage Forward (Vf): 450mV @ 1A; Part Number: SM5817PL-TP; PartId: 29332; Supplier 1: Digi-Key; Supplier Part Number 1: SM5817PL-TPMSCT-ND; ComponentLink1Description: Datasheet; ComponentLink1URL: http://www.mccsemi.com/up_pdf/SM5817PL-SM5819PL(SOD-123FL).PDF; ComponentLink2Description: Digi-Key Listing; ComponentLink2URL: https://www.digikey.com/product-detail/en/micro-commercial-co/SM5817PL-TP/SM5817PL-TPMSCT-ND/1793410; Junction Operating Temperature: -65C ~ 125C; Price: 0.52; Type: Schottky; Device Package: SOD-123F; Voltage DC Reverse (Vr): 20V; Current Rectified: 1A
footprint SOD123F
pins: 1, 2

## SM5818PL-TP
designator D?
DIODE SCHOTTKY 30V 1A SOD123FL; Manufacturer: Micro Commercial Co; Current Reverse Leakage @ Vr: 100uA @ 30V; Voltage Forward (Vf): 560mV @ 1A; Part Number: SM5818PL-TP; PartId: 29302; Supplier 1: Digi-Key; Supplier Part Number 1: SM5818PL-TPMSCT-ND; ComponentLink1Description: Datasheet; ComponentLink1URL: http://www.mccsemi.com/up_pdf/SM5817PL-SM5819PL(SOD-123FL).PDF; ComponentLink2Description: Digi-Key Listing; ComponentLink2URL: https://www.digikey.com/product-detail/en/micro-commercial-co/SM5818PL-TP/SM5818PL-TPMSCT-ND/1793411; Junction Operating Temperature: -65C ~ 125C; Price: 0.52; Type: Schottky; Device Package: SOD-123F; Voltage DC Reverse (Vr): 30V; Current Rectified: 1A
footprint SOD123F
pins: 1, 2

## SM5819PL-TP
designator D?
DIODE SCHOTTKY 40V 1A SOD123FL; Manufacturer: Micro Commercial Co; Current Reverse Leakage @ Vr: 100uA @ 40V; Voltage Forward (Vf): 600mV @ 1A; Part Number: SM5819PL-TP; PartId: 29300; Supplier 1: Digi-Key; Supplier Part Number 1: SM5819PL-TPMSCT-ND; ComponentLink1Description: Datasheet; ComponentLink1URL: http://www.mccsemi.com/up_pdf/SM5817PL-SM5819PL(SOD-123FL).PDF; ComponentLink2Description: Digi-Key Listing; ComponentLink2URL: https://www.digikey.com/product-detail/en/micro-commercial-co/SM5819PL-TP/SM5819PL-TPMSCT-ND/1793412; Junction Operating Temperature: -65C ~ 125C; Price: 0.52; Type: Schottky; Device Package: SOD-123F; Voltage DC Reverse (Vr): 40V; Current Rectified: 1A
footprint SOD123F
pins: 1, 2

## SMD16PL-TP
designator D?
DIODE SCHOTTKY 60V 1A SOD123FL; Manufacturer: Micro Commercial Co; Current Reverse Leakage @ Vr: 500uA @ 60V; Voltage Forward (Vf): 700mV @ 1A; Part Number: SMD16PL-TP; PartId: 29238; Supplier 1: Digi-Key; Supplier Part Number 1: SMD16PL-TPMSCT-ND; ComponentLink1Description: Datasheet; ComponentLink1URL: http://www.mccsemi.com/up_pdf/SMD15PL-SMD18PL(SOD-123FL).pdf; ComponentLink2Description: Digi-Key Listing; ComponentLink2URL: https://www.digikey.com/product-detail/en/micro-commercial-co/SMD16PL-TP/SMD16PL-TPMSCT-ND/5870133; Junction Operating Temperature: -55C ~ 125C; Price: 0.49; Type: Schottky; Device Package: SOD-123F; Voltage DC Reverse (Vr): 60V; Current Rectified: 1A
footprint SOD123F
pins: 1, 2

## SMD18PL-TP
designator D?
DIODE SCHOTTKY 80V 1A SOD123FL; Manufacturer: Micro Commercial Co; Current Reverse Leakage @ Vr: 500uA @ 80V; Voltage Forward (Vf): 850mV @ 1A; Part Number: SMD18PL-TP; PartId: 29231; Supplier 1: Digi-Key; Supplier Part Number 1: SMD18PL-TPMSCT-ND; ComponentLink1Description: Datasheet; ComponentLink1URL: http://www.mccsemi.com/up_pdf/SMD15PL-SMD18PL(SOD-123FL).pdf; ComponentLink2Description: Digi-Key Listing; ComponentLink2URL: https://www.digikey.com/product-detail/en/micro-commercial-co/SMD18PL-TP/SMD18PL-TPMSCT-ND/2698523; Junction Operating Temperature: -55C ~ 125C; Price: 0.47; Type: Schottky; Device Package: SOD-123F; Voltage DC Reverse (Vr): 80V; Current Rectified: 1A
footprint SOD123F
pins: 1, 2

## SMD22PL-TP
designator D?
DIODE SCHOTTKY 20V 2A SOD123FL; Manufacturer: Micro Commercial Co; Current Reverse Leakage @ Vr: 500uA @ 20V; Voltage Forward (Vf): 500mV @ 2A; Part Number: SMD22PL-TP; PartId: 29307; Supplier 1: Digi-Key; Supplier Part Number 1: SMD22PL-TPMSCT-ND; ComponentLink1Description: Datasheet; ComponentLink1URL: http://www.mccsemi.com/up_pdf/SMD22PL-SMD210PL(SOD-123FL).pdf; ComponentLink2Description: Digi-Key Listing; ComponentLink2URL: https://www.digikey.com/product-detail/en/micro-commercial-co/SMD22PL-TP/SMD22PL-TPMSCT-ND/1793424; Junction Operating Temperature: -65C ~ 125C; Price: 0.54; Type: Schottky; Device Package: SOD-123F; Voltage DC Reverse (Vr): 20V; Current Rectified: 2A
footprint SOD123F
pins: 1, 2

## SMD24PL-TP
designator D?
DIODE SCHOTTKY 40V 2A SOD123FL; Manufacturer: Micro Commercial Co; Current Reverse Leakage @ Vr: 500uA @ 40V; Voltage Forward (Vf): 500mV @ 2A; Part Number: SMD24PL-TP; PartId: 29207; Supplier 1: Digi-Key; Supplier Part Number 1: SMD24PL-TPMSCT-ND; ComponentLink1Description: Datasheet; ComponentLink1URL: http://www.mccsemi.com/up_pdf/SMD22PL-SMD210PL(SOD-123FL).pdf; ComponentLink2Description: Digi-Key Listing; ComponentLink2URL: https://www.digikey.com/product-detail/en/micro-commercial-co/SMD24PL-TP/SMD24PL-TPMSCT-ND/1793425; Junction Operating Temperature: -65C ~ 125C; Price: 0.54; Type: Schottky; Device Package: SOD-123F; Voltage DC Reverse (Vr): 40V; Current Rectified: 2A
footprint SOD123F
pins: 1, 2

## SMD26PL-TP
designator D?
DIODE SCHOTTKY 60V 2A SOD123FL; Manufacturer: Micro Commercial Co; Current Reverse Leakage @ Vr: 500uA @ 60V; Voltage Forward (Vf): 700mV @ 2A; Part Number: SMD26PL-TP; PartId: 29206; Supplier 1: Digi-Key; Supplier Part Number 1: SMD26PL-TPMSCT-ND; ComponentLink1Description: Datasheet; ComponentLink1URL: http://www.mccsemi.com/up_pdf/SMD22PL-SMD210PL(SOD-123FL).pdf; ComponentLink2Description: Digi-Key Listing; ComponentLink2URL: https://www.digikey.com/product-detail/en/micro-commercial-co/SMD26PL-TP/SMD26PL-TPMSCT-ND/1793426; Junction Operating Temperature: -65C ~ 125C; Price: 0.54; Type: Schottky; Device Package: SOD-123F; Voltage DC Reverse (Vr): 60V; Current Rectified: 2A
footprint SOD123F
pins: 1, 2

## SMD110PL-TP
designator D?
DIODE SCHOTTKY 100V 1A SOD123FL; Manufacturer: Micro Commercial Co; Current Reverse Leakage @ Vr: 500uA @ 100V; Voltage Forward (Vf): 850mV @ 1A; Part Number: SMD110PL-TP; PartId: 29198; Supplier 1: Digi-Key; Supplier Part Number 1: SMD110PL-TPMSCT-ND; ComponentLink1Description: Datasheet; ComponentLink1URL: http://www.mccsemi.com/up_pdf/SMD15PL-SMD1200PL(SOD-123FL).pdf; ComponentLink2Description: Digi-Key Listing; ComponentLink2URL: https://www.digikey.com/product-detail/en/micro-commercial-co/SMD110PL-TP/SMD110PL-TPMSCT-ND/2698525; Junction Operating Temperature: -55C ~ 125C; Price: 0.47; Type: Schottky; Device Package: SOD-123F; Voltage DC Reverse (Vr): 100V; Current Rectified: 1A
footprint SOD123F
pins: 1, 2

## SMD210PL-TP
designator D?
DIODE SCHOTTKY 100V 2A SOD123FL; Manufacturer: Micro Commercial Co; Current Reverse Leakage @ Vr: 500uA @ 100V; Voltage Forward (Vf): 850mV @ 2A; Part Number: SMD210PL-TP; PartId: 29233; Supplier 1: Digi-Key; Supplier Part Number 1: SMD210PL-TPMSCT-ND; ComponentLink1Description: Datasheet; ComponentLink1URL: http://www.mccsemi.com/up_pdf/SMD22PL-SMD210PL(SOD-123FL).pdf; ComponentLink2Description: Digi-Key Listing; ComponentLink2URL: https://www.digikey.com/product-detail/en/micro-commercial-co/SMD210PL-TP/SMD210PL-TPMSCT-ND/4918826; Junction Operating Temperature: -65C ~ 150C; Price: 0.54; Type: Schottky; Device Package: SOD-123F; Voltage DC Reverse (Vr): 100V; Current Rectified: 2A
footprint SOD123F
pins: 1, 2

## SMD220PL-TP
designator D?
DIODE SCHOTTKY 200V 2A SOD123FL; Manufacturer: Micro Commercial Co; Current Reverse Leakage @ Vr: 500uA @ 200V; Voltage Forward (Vf): 900mV @ 2A; Part Number: SMD220PL-TP; PartId: 29243; Supplier 1: Digi-Key; Supplier Part Number 1: SMD220PL-TPMSCT-ND; ComponentLink1Description: Datasheet; ComponentLink1URL: http://www.mccsemi.com/up_pdf/SMD2150PL-SMD220PL(SOD-123FL).pdf; ComponentLink2Description: Digi-Key Listing; ComponentLink2URL: https://www.digikey.com/product-detail/en/micro-commercial-co/SMD220PL-TP/SMD220PL-TPMSCT-ND/6149691; Junction Operating Temperature: -65C ~ 150C; Price: 0.57; Type: Schottky; Device Package: SOD-123F; Voltage DC Reverse (Vr): 200V; Current Rectified: 2A
footprint SOD123F
pins: 1, 2

## SMD1150PL-TP
designator D?
DIODE SCHOTTKY 150V 1A SOD123FL; Manufacturer: Micro Commercial Co; Current Reverse Leakage @ Vr: 500uA @ 150V; Voltage Forward (Vf): 850mV @ 1A; Part Number: SMD1150PL-TP; PartId: 29199; Supplier 1: Digi-Key; Supplier Part Number 1: SMD1150PL-TPMSCT-ND; ComponentLink1Description: Datasheet; ComponentLink1URL: http://www.mccsemi.com/up_pdf/SMD15PL-SMD1200PL(SOD-123FL).pdf; ComponentLink2Description: Digi-Key Listing; ComponentLink2URL: https://www.digikey.com/product-detail/en/micro-commercial-co/SMD1150PL-TP/SMD1150PL-TPMSCT-ND/2698527; Junction Operating Temperature: -55C ~ 125C; Price: 0.47; Type: Schottky; Device Package: SOD-123F; Voltage DC Reverse (Vr): 150V; Current Rectified: 1A
footprint SOD123F
pins: 1, 2

## SMD1200PL-TP
designator D?
DIODE SCHOTTKY 200V 1A SOD123FL; Manufacturer: Micro Commercial Co; Current Reverse Leakage @ Vr: 500uA @ 200V; Voltage Forward (Vf): 950mV @ 1A; Part Number: SMD1200PL-TP; PartId: 29163; Supplier 1: Digi-Key; Supplier Part Number 1: SMD1200PL-TPMSCT-ND; ComponentLink1Description: Datasheet; ComponentLink1URL: http://www.mccsemi.com/up_pdf/SMD15PL-SMD1200PL(SOD-123FL).pdf; ComponentLink2Description: Digi-Key Listing; ComponentLink2URL: https://www.digikey.com/product-detail/en/micro-commercial-co/SMD1200PL-TP/SMD1200PL-TPMSCT-ND/2698529; Junction Operating Temperature: -55C ~ 125C; Price: 0.47; Type: Schottky; Device Package: SOD-123F; Voltage DC Reverse (Vr): 200V; Current Rectified: 1A
footprint SOD123F
pins: 1, 2

## SMD2150PL-TP
designator D?
DIODE SCHOTTKY 150V 2A SOD123FL; Manufacturer: Micro Commercial Co; Current Reverse Leakage @ Vr: 500uA @ 150V; Voltage Forward (Vf): 900mV @ 2A; Part Number: SMD2150PL-TP; PartId: 29315; Supplier 1: Digi-Key; Supplier Part Number 1: SMD2150PL-TPMSCT-ND; ComponentLink1Description: Datasheet; ComponentLink1URL: http://www.mccsemi.com/up_pdf/SMD2150PL-SMD220PL(SOD-123FL).pdf; ComponentLink2Description: Digi-Key Listing; ComponentLink2URL: https://www.digikey.com/product-detail/en/micro-commercial-co/SMD2150PL-TP/SMD2150PL-TPMSCT-ND/6149690; Junction Operating Temperature: -65C ~ 150C; Price: 0.57; Type: Schottky; Device Package: SOD-123F; Voltage DC Reverse (Vr): 150V; Current Rectified: 2A
footprint SOD123F
pins: 1, 2

## SMLJ60S2-TP
designator D?
DIODE GEN PURP 200V 6A DO214AB; Manufacturer: Micro Commercial Co; Type: Standard; Current Reverse Leakage @ Vr: 5uA @ 200V; Voltage Forward (Vf): 1V @ 6A; Part Number: SMLJ60S2-TP; PartId: 27789; Supplier 1: Digi-Key; Supplier Part Number 1: SMLJ60S2-TPMSCT-ND; ComponentLink1Description: Datasheet; ComponentLink1URL: http://www.mccsemi.com/up_pdf/SMLJ60S05~SMLJ60S10(DO-214AB).pdf; ComponentLink2Description: Digi-Key Listing; ComponentLink2URL: https://www.digikey.com/product-detail/en/micro-commercial-co/SMLJ60S2-TP/SMLJ60S2-TPMSCT-ND/2404603; Junction Operating Temperature: -55C ~ 150C; Price: 1.01; Device Package: DO-214AB, SMC; Voltage DC Reverse (Vr): 200V; Current Rectified: 6A
footprint ST DO214AB SMC
pins: 1, 2

## SMLJ60S05-TP
designator D?
DIODE GEN PURP 50V 6A DO214AB; Manufacturer: Micro Commercial Co; Type: Standard; Current Reverse Leakage @ Vr: 5uA @ 50V; Voltage Forward (Vf): 1V @ 6A; Part Number: SMLJ60S05-TP; PartId: 27759; Supplier 1: Digi-Key; Supplier Part Number 1: SMLJ60S05-TPMSCT-ND; ComponentLink1Description: Datasheet; ComponentLink1URL: http://www.mccsemi.com/up_pdf/SMLJ60S05~SMLJ60S10(DO-214AB).pdf; ComponentLink2Description: Digi-Key Listing; ComponentLink2URL: https://www.digikey.com/product-detail/en/micro-commercial-co/SMLJ60S05-TP/SMLJ60S05-TPMSCT-ND/2404599; Junction Operating Temperature: -55C ~ 150C; Price: 1.01; Device Package: DO-214AB, SMC; Voltage DC Reverse (Vr): 50V; Current Rectified: 6A
footprint ST DO214AB SMC
pins: 1, 2

## SMLJ60S6-TP
designator D?
DIODE GEN PURP 600V 6A DO214AB; Manufacturer: Micro Commercial Co; Type: Standard; Current Reverse Leakage @ Vr: 5uA @ 600V; Voltage Forward (Vf): 1V @ 6A; Part Number: SMLJ60S6-TP; PartId: 27760; Supplier 1: Digi-Key; Supplier Part Number 1: SMLJ60S6-TPMSCT-ND; ComponentLink1Description: Datasheet; ComponentLink1URL: http://www.mccsemi.com/up_pdf/SMLJ60S05~SMLJ60S10(DO-214AB).pdf; ComponentLink2Description: Digi-Key Listing; ComponentLink2URL: https://www.digikey.com/product-detail/en/micro-commercial-co/SMLJ60S6-TP/SMLJ60S6-TPMSCT-ND/2404605; Junction Operating Temperature: -55C ~ 150C; Price: 1.01; Device Package: DO-214AB, SMC; Voltage DC Reverse (Vr): 600V; Current Rectified: 6A
footprint ST DO214AB SMC
pins: 1, 2

## SMLJ60S10-TP
designator D?
DIODE GEN PURP 1KV 6A DO214AB; Manufacturer: Micro Commercial Co; Type: Standard; Current Reverse Leakage @ Vr: 5uA @ 1000V; Voltage DC Reverse (Vr): 1000V (1kV); Voltage Forward (Vf): 1V @ 6A; Part Number: SMLJ60S10-TP; PartId: 27707; Supplier 1: Digi-Key; Supplier Part Number 1: SMLJ60S10-TPMSCT-ND; ComponentLink1Description: Datasheet; ComponentLink1URL: http://www.mccsemi.com/up_pdf/SMLJ60S05~SMLJ60S10(DO-214AB).pdf; ComponentLink2Description: Digi-Key Listing; ComponentLink2URL: https://www.digikey.com/product-detail/en/micro-commercial-co/SMLJ60S10-TP/SMLJ60S10-TPMSCT-ND/2404601; Junction Operating Temperature: -55C ~ 150C; Price: 1.01; Device Package: DO-214AB, SMC; Current Rectified: 6A
footprint ST DO214AB SMC
pins: 1, 2

## SMMSD4148T1G
designator D?
DIODE GEN PURP 100V 200MA SOD123; Manufacturer: ON Semiconductor; Type: Standard; Current Reverse Leakage @ Vr: 5uA @ 75V; Reverse Recovery Time (trr): 4ns; Current Rectified: 200mA (DC); Voltage Forward (Vf): 1V @ 10mA; Part Number: SMMSD4148T1G; PartId: 29427; Supplier 1: Digi-Key; Supplier Part Number 1: SMMSD4148T1GOSCT-ND; ComponentLink1Description: Datasheet; ComponentLink1URL: http://www.onsemi.com/pub_link/Collateral/MMSD4148T1-D.PDF; ComponentLink2Description: Digi-Key Listing; ComponentLink2URL: https://www.digikey.com/product-detail/en/on-semiconductor/SMMSD4148T1G/SMMSD4148T1GOSCT-ND/4331842; Junction Operating Temperature: -55C ~ 150C; Price: 0.38; Device Package: SOD-123; Voltage DC Reverse (Vr): 100V
footprint SOD-123
pins: 1, 2

## SS3H9-E3/57T
designator D?
DIODE SCHOTTKY 90V 3A DO214AB; Manufacturer: Vishay Semiconductor Diodes Division; Current Reverse Leakage @ Vr: 20uA @ 90V; Voltage Forward (Vf): 800mV @ 3A; Part Number: SS3H9-E3/57T; PartId: 27756; Supplier 1: Digi-Key; Supplier Part Number 1: SS3H9-E3/57TGICT-ND; ComponentLink1Description: Datasheet; ComponentLink1URL: http://www.vishay.com/docs/88752/ss3h9.pdf; ComponentLink2Description: Digi-Key Listing; ComponentLink2URL: https://www.digikey.com/product-detail/en/vishay-semiconductor-diodes-division/SS3H9-E3-57T/SS3H9-E3-57TGICT-ND/3025931; Junction Operating Temperature: -65C ~ 175C; Price: 0.64; Type: Schottky; Device Package: DO-214AB, SMC; Voltage DC Reverse (Vr): 90V; Current Rectified: 3A
footprint ST DO214AB SMC
pins: 1, 2

## SS3H10-E3/9AT
designator D?
DIODE SCHOTTKY 100V 3A DO214AB; Manufacturer: Vishay Semiconductor Diodes Division; Current Reverse Leakage @ Vr: 20uA @ 100V; Voltage Forward (Vf): 800mV @ 3A; Part Number: SS3H10-E3/9AT; PartId: 27731; Supplier 1: Digi-Key; Supplier Part Number 1: SS3H10-E3/9ATGICT-ND; ComponentLink1Description: Datasheet; ComponentLink1URL: http://www.vishay.com/docs/88752/ss3h9.pdf; ComponentLink2Description: Digi-Key Listing; ComponentLink2URL: https://www.digikey.com/product-detail/en/vishay-semiconductor-diodes-division/SS3H10-E3-9AT/SS3H10-E3-9ATGICT-ND/3847577; Junction Operating Temperature: -65C ~ 175C; Price: 0.56; Type: Schottky; Device Package: DO-214AB, SMC; Voltage DC Reverse (Vr): 100V; Current Rectified: 3A
footprint ST DO214AB SMC
pins: 1, 2

## SS3H10-E3/57T
designator D?
DIODE SCHOTTKY 100V 3A DO214AB; Manufacturer: Vishay Semiconductor Diodes Division; Current Reverse Leakage @ Vr: 20uA @ 100V; Voltage Forward (Vf): 800mV @ 3A; Part Number: SS3H10-E3/57T; PartId: 27754; Supplier 1: Digi-Key; Supplier Part Number 1: SS3H10-E3/57TGICT-ND; ComponentLink1Description: Datasheet; ComponentLink1URL: http://www.vishay.com/docs/88752/ss3h9.pdf; ComponentLink2Description: Digi-Key Listing; ComponentLink2URL: https://www.digikey.com/product-detail/en/vishay-semiconductor-diodes-division/SS3H10-E3-57T/SS3H10-E3-57TGICT-ND/1091686; Junction Operating Temperature: -65C ~ 175C; Price: 0.56; Type: Schottky; Device Package: DO-214AB, SMC; Voltage DC Reverse (Vr): 100V; Current Rectified: 3A
footprint ST DO214AB SMC
pins: 1, 2

## SS13FL
designator D?
DIODE SCHOTTKY 30V 1A SOD123F; Manufacturer: Fairchild/ON Semiconductor; Current Reverse Leakage @ Vr: 30uA @ 30V; Reverse Recovery Time (trr): 5.875ns; Voltage Forward (Vf): 550mV @ 1A; Part Number: SS13FL; PartId: 29259; Supplier 1: Digi-Key; Supplier Part Number 1: SS13FLCT-ND; ComponentLink1Description: Datasheet; ComponentLink1URL: https://www.fairchildsemi.com/datasheets/SS/SS13FL.pdf; ComponentLink2Description: Digi-Key Listing; ComponentLink2URL: https://www.digikey.com/product-detail/en/fairchild-on-semiconductor/SS13FL/SS13FLCT-ND/5305091; Junction Operating Temperature: -55C ~ 125C; Price: 0.36; Type: Schottky; Device Package: SOD-123F; Voltage DC Reverse (Vr): 30V; Current Rectified: 1A
footprint SOD123F
pins: 1, 2